# Altium schematic symbol library CF14JA1R00.SchLib: 2 symbols
Pins are listed as number, name and electrical type; pins without a type are passive.

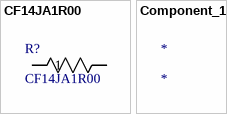
[diagram p0: symbols CF14JA1R00 to Component_1]

## CF14JA1R00
designator R?
No Description Available; Mfr_Name: Stackpole International; Copyright: Copyright (C) 2022 Ultra Librarian. All rights reserved.; Manufacturer_Part_Number: CF14JA1R00; Digi-Key_Part_Number_1: CF14JA1R00-ND; RefDes: RefDes; Type: DEV
footprint RES_CF14_STP
pins: 1, 2

## Component_1
designator *